# Altium integrated library CMEJ-0413-42-SMT-TR.IntLib: 1 symbol
Pins are listed as number, name and electrical type; pins without a type are passive.

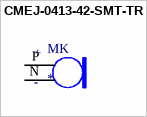
[diagram p0: symbol CMEJ-0413-42-SMT-TR]

## CMEJ-0413-42-SMT-TR
designator MK
4.0 mm, Omnidirectional, Surface Mount, 2 Vdc, Electret Condenser Microphone; MF: CUI Devices; MP: CMEJ-0413-42-SMT-TR; Availability: Unavailable; Price: None; Value: *; SnapEDA_Link: https://www.snapeda.com/parts/CMEJ-0413-42-SMT-TR/CUI%20Devices/view-part/3660757/?ref=snap
footprint MIC_CMEJ-0413-42-SMT-TR
pins: N GND, P OUTPUT
text: +; -